# Altium footprint library HDRV8W64P254_4X2_1016X483X1067N.PcbLib: 1 footprints
Each footprint in its own frame and in the unit in brackets; x right, y up, seen from the top. Pads: shape width x height; smd on the part's side, far side on the other; paste and mask are expansions set on the pad; w line width, h text height; cw(c..) or ccw(c..) is an arc to the next point about the centre after c.
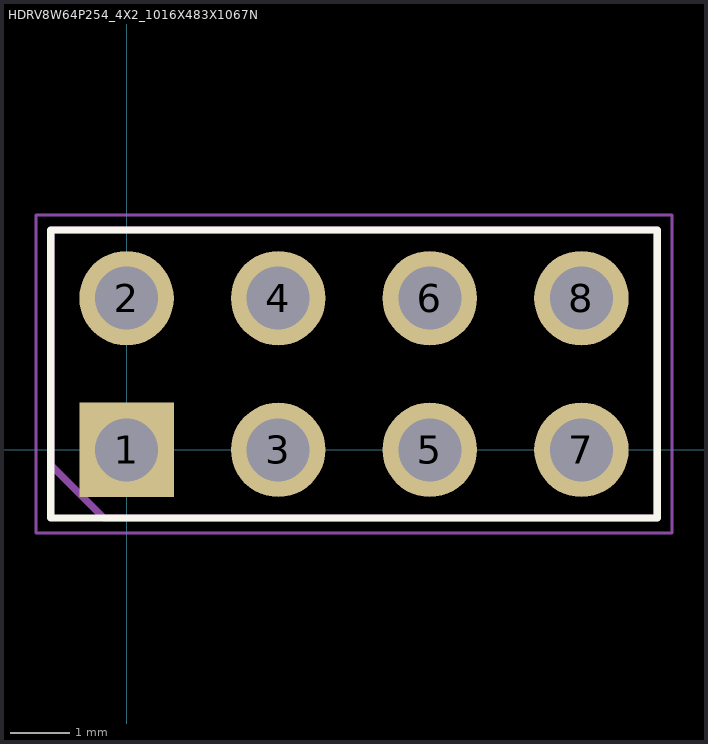
[diagram p0: the footprint, top view; thin cyan lines are the x and y axes]

## HDRV8W64P254_4X2_1016X483X1067N [mm] "Header, Vertical Non-Shroulded, 2.54 mm pitch; 0.64 mm lead width, 8 pins, 2 rows, 4 pins per row, 10.16 mm L X 4.83 mm W X 10.67 mm H Body"
height 10.67
pads (8):
  rect 1.583x1.583 / inner round 1.583 / far side rect 1.583x1.583 hole 1.055 paste-1.583: 1(0,0)
  round 1.583 hole 1.055 paste-1.583: 2(0,2.54) 3(2.54,0) 4(2.54,2.54) 5(5.08,0) 6(5.08,2.54) 7(7.62,0) 8(7.62,2.54)
Top Overlay:
  lines w0.12: -1.27,-1.145 8.89,-1.145 8.89,3.685 -1.27,3.685 -1.27,-1.145
Mechanical 3:
  lines w0.12: -1.27,-0.254 -1.27,3.685 8.89,3.685 8.89,-1.145 -0.379,-1.145 -1.27,-0.254
Mechanical 5:
  lines w0.025: -1.27,-1.145 8.89,-1.145 8.89,3.685 -1.27,3.685 -1.27,-1.145 ; -0.32,-0.32 0.32,-0.32 0.32,0.32 -0.32,0.32 -0.32,-0.32 ; -0.32,2.22 0.32,2.22 0.32,2.86 -0.32,2.86 -0.32,2.22 ; 2.22,-0.32 2.86,-0.32 2.86,0.32 2.22,0.32 2.22,-0.32 ; 2.22,2.22 2.86,2.22 2.86,2.86 2.22,2.86 2.22,2.22 ; 4.76,-0.32 5.4,-0.32 5.4,0.32 4.76,0.32 4.76,-0.32 ; 4.76,2.22 5.4,2.22 5.4,2.86 4.76,2.86 4.76,2.22 ; 7.3,-0.32 7.94,-0.32 7.94,0.32 7.3,0.32 7.3,-0.32 ; 7.3,2.22 7.94,2.22 7.94,2.86 7.3,2.86 7.3,2.22
Mechanical 7:
  circle w0.05: c0,0 r0.25
  lines w0.05: -0.35,0 0.35,0 ; 0,-0.35 0,0.35 ; -1.52,-1.395 9.14,-1.395 9.14,3.935 -1.52,3.935 -1.52,-1.395
Mechanical 9:
  text "'.Designator'" at -1.626,0.872 h1.02
3D body "HDRV8W64P254_4X2_1016X483X1067.STEP": height 10.67, standoff -2, extent -1.27,-1.145 8.89,3.685
3D body: height 23.4, standoff -5, extent -1.52,-1.395 9.14,3.935